# Altium schematic symbol library SPDT_Relay.SchLib: 3 symbols
Pins are listed as number, name and electrical type; pins without a type are passive.

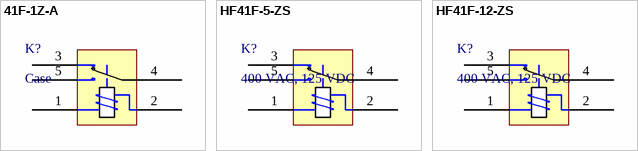
[diagram p0: symbols 41F-1Z-A to HF41F-12-ZS]

## 41F-1Z-A
designator K?, comment Case
H41F Relay Socket; Manufacturer: OEM; Manufacturer Part Number: 41F-1Z-A; Associated Relay Series: H41F; Coil Current: N/A; Coil Resistance: N/A; Coil Voltage: N/A; ComponentLink1Description: Datasheet; ComponentLink1URL: N/A; Contact Current Rating: N/A; Power Consumption: N/A; Supplier 1 URL: N/A; Supplier 2 URL: N/A; Supplier 3 URL: https://www.thegioiic.com/41f-1z-a-de-relay-hf41f-5-chan; Switching Voltage Max: N/A; Value: Case; Mount: THT; Supplier 1: Mouser; Supplier 1 Part Number: N/A; Supplier 2: Digi-Key; Supplier 2 Part Number: N/A; Supplier 3: thegioiic; Supplier 3 Part Number: N/A
footprint HF41F Relay Socket
pins: 1 Coil "-", 2 Coil "+", 3 NC, 4 Out, 5 NO

## HF41F-5-ZS
designator K?, comment 400 VAC, 125 VDC
Coil Voltage: 5 VDC; Contact Current Rating: 6A; Switching Voltage Max:  400 VAC, 125 VDC; Manufacturer: Hongfa; Manufacturer Part Number: HF41F-5-ZS; Coil Voltage: 5 VDC; Switching Voltage Max: 400 VAC, 125 VDC; Associated Relay Series: N/A; Coil Current: N/A; Coil Resistance: N/A; ComponentLink1Description: Datasheet; ComponentLink1URL: https://source.hongfa.com//pdf/web/viewer.html?file=\Uploads\Product\PDF\HF41F_en.pdf?timestamp=1691114729; Power Consumption: N/A; Supplier 1 URL: N/A; Supplier 2 URL: N/A; Supplier 3 URL: https://www.thegioiic.com/hf41f-5-zs-ro-le-5vdc-6a-spdt-5-chan; Value: 400 VAC, 125 VDC; Mount: THT; Supplier 1: Mouser; Supplier 1 Part Number: N/A; Supplier 2: Digi-Key; Supplier 2 Part Number: N/A; Supplier 3: thegioiic; Supplier 3 Part Number: N/A
footprint HF41F
pins: 1 Coil "-", 2 Coil "+", 3 NC, 4 Out, 5 NO

## HF41F-12-ZS
designator K?, comment 400 VAC, 125 VDC
Coil Voltage: 12 VDC; Contact Current Rating: 6A; Switching Voltage Max:  400 VAC, 125 VDC; Manufacturer: Hongfa; Manufacturer Part Number: HF41F-12-ZS; Coil Voltage: 12 VDC; Switching Voltage Max: 400 VAC, 125 VDC; Associated Relay Series: N/A; Coil Current: N/A; Coil Resistance: N/A; ComponentLink1Description: Datasheet; ComponentLink1URL: https://source.hongfa.com//pdf/web/viewer.html?file=\Uploads\Product\PDF\HF41F_en.pdf?timestamp=1691114729; Power Consumption: N/A; Supplier 1 URL: N/A; Supplier 2 URL: N/A; Supplier 3 URL: https://www.thegioiic.com/hf41f-12-zs-ro-le-12vdc-6a-spdt-5-chan; Value: 400 VAC, 125 VDC; Mount: THT; Supplier 1: Mouser; Supplier 1 Part Number: N/A; Supplier 2: Digi-Key; Supplier 2 Part Number: N/A; Supplier 3: thegioiic; Supplier 3 Part Number: N/A
footprint HF41F
pins: 1 Coil "-", 2 Coil "+", 3 NC, 4 Out, 5 NO